# Altium schematic symbol library PERCRO_schematic.SchLib: 169 symbols (part 1 of 2)
Pins are listed as number, name and electrical type; pins without a type are passive.

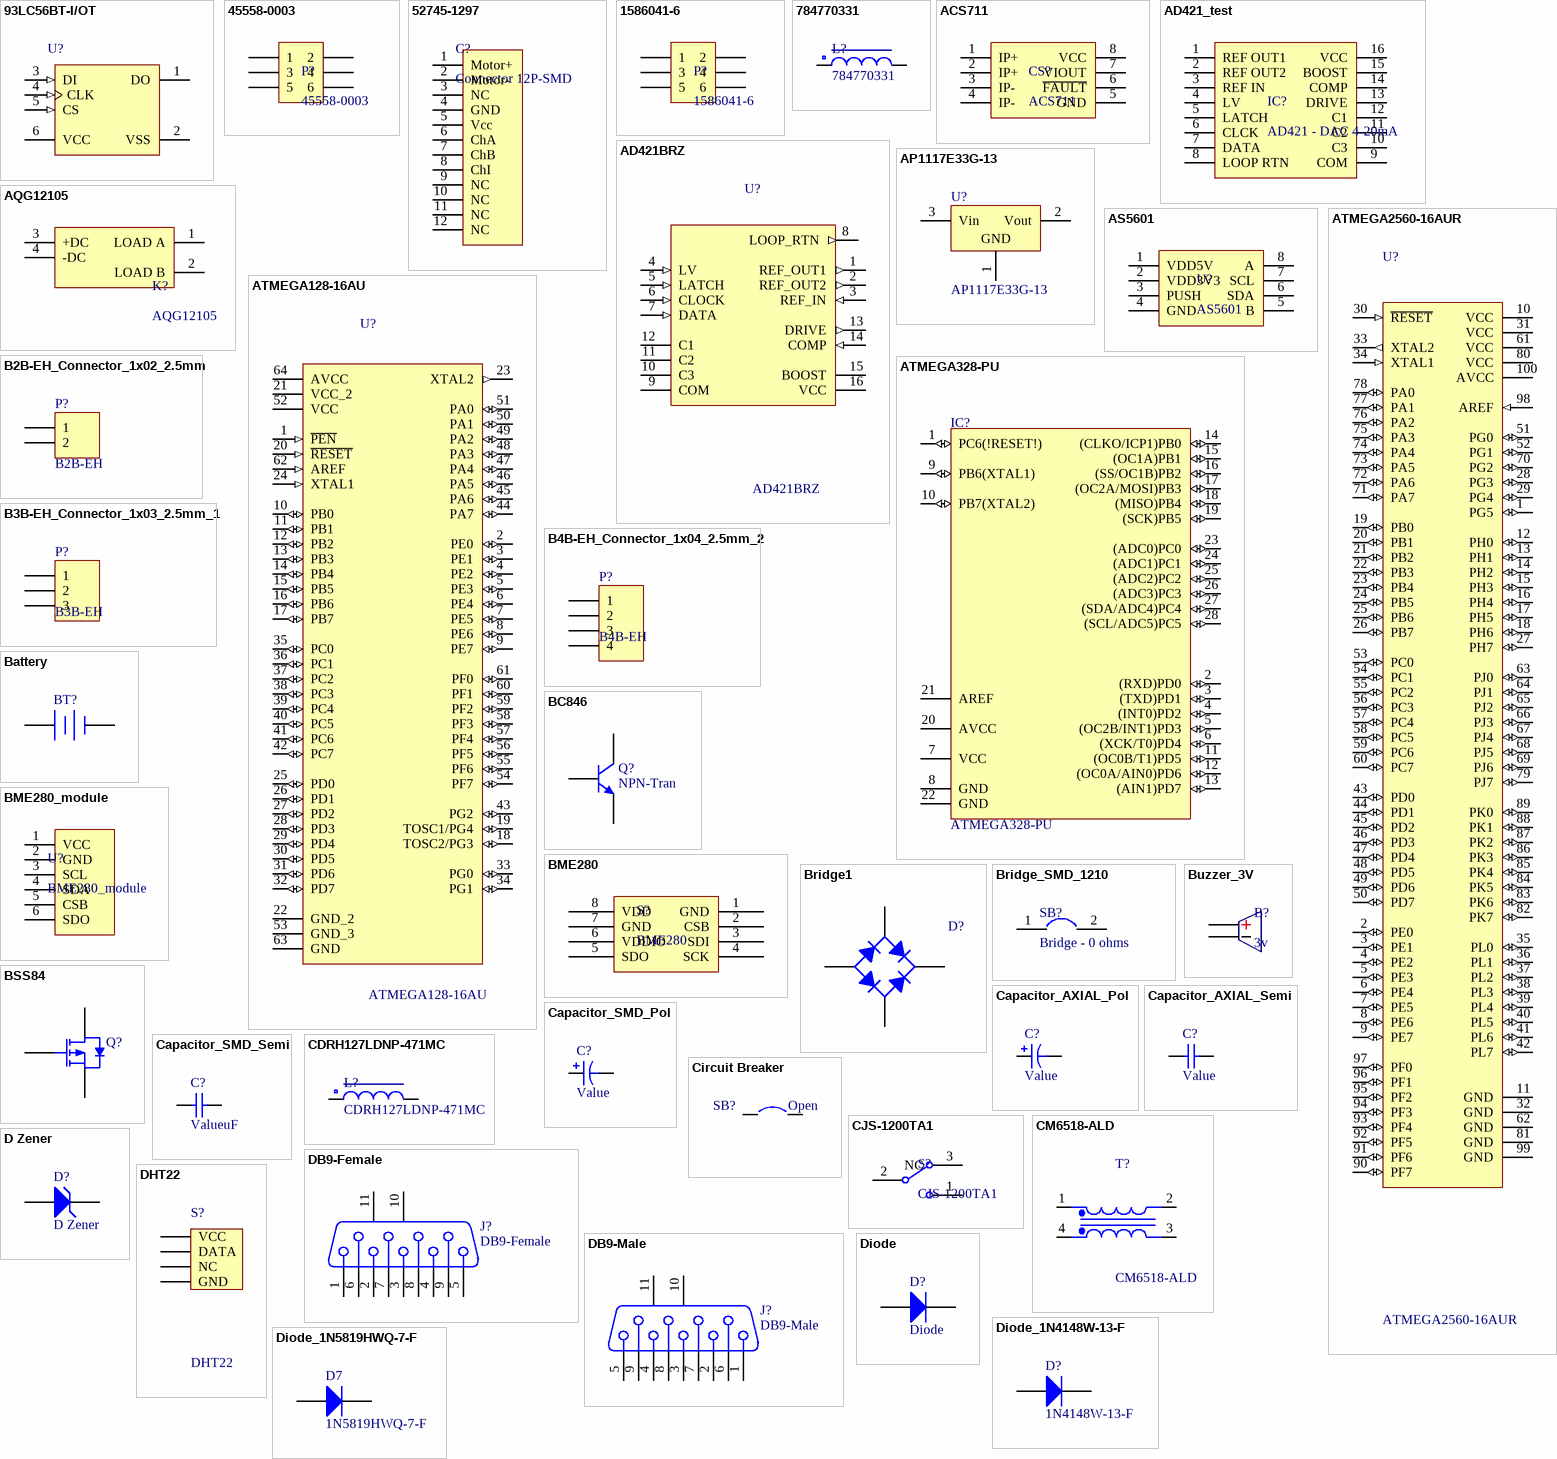
[diagram p0: symbols 93LC56BT-I/OT to Diode_1N5819HWQ-7-F]

## 93LC56BT-I/OT
designator U?
2K, 128x16-bit, 2.5V Microwire Serial EEPROM, 6-Pin SOT-23, Industrial Temperature, Tape and Reel; Manufacturer: Microchip; Manufacturer Code: 93LC56BT-E/OT; HelpURL: C:\Varios\PERCRO_DATASHEET\93LC56BT-EOT.pdf
footprint SOT-23-OT6_N (SOT23, 6-Leads, Body 2.9x1.6mm, Pitch 0.95mm, Lead Span 2.7mm, IPC Medium Density)
pins: 1 DO (hiz), 2 VSS (power), 3 DI (in), 4 CLK (in), 5 CS (in), 6 VCC (power)

## 45558-0003
designator P?
CONN RECEPT 6 POS W/POSTIVE LOCK; Manufacturer: Molex; Manufacturer Code: 45558-0003; HelpURL: C:\Varios\PERCRO_DATASHEET\45558-0003.pdf
footprint 45558-0003 (Footprint not found)
pins: 1, 2, 3, 4, 5, 6

## 52745-1297
designator C?, comment Connector 12P-SMD
Conectores FFC-12P; Manufacturer: Molex; Manufacturer Code: 52745-1297; HelpURL: C:\Varios\PERCRO_DATASHEET\CONNECTOR-52745-1297.pdf
footprint Nano_FFC_Connector (SMD Connector for DC motor ENX8)
pins: 1 Motor+, 2 Motor-, 3 NC, 4 GND, 5 Vcc , 6 ChA, 7 ChB, 8 ChI, 9 NC, 10 NC, 11 NC, 12 NC

## 1586041-6
designator P?
CONN RECEPT 6 POS W/POSTIVE LOCK; Manufacturer: TE Connectivity / AMP; Manufacturer Code: 1586041-6; HelpURL: C:\Varios\PERCRO_DATASHEET\1586041-6.pdf
footprint 1586041-6 (CONN HEADER R/A 6POS 4.2MM)
pins: 1, 2, 3, 4, 5, 6

## 784770331
designator L?
Inductor 330 uH 20 % 1 A; Manufacturer: Wurth Elektronik; Value: 330 uH; Manufacturer Code: 784770331; HelpURL: C:\Varios\PERCRO_DATASHEET\784770331.pdf
footprint 784770331 (Inductor Wurth Elektronik)
pins: 1, 2

## ACS711
designator CS?
Hall Effect Linear Current Sensor with Overcurrent; Manufacturer: Allegro; Manufacturer Code: ACS711ELCTR-25AB; HelpURL: C:\Varios\PERCRO_DATASHEET\ACS711.pdf
footprint SOIC-8
pins: 1 IP+, 2 IP+, 3 IP-, 4 IP-, 5 GND, 6 ~{FAULT}, 7 VIOUT, 8 VCC

## AD421_test
designator IC?, comment AD421 - DAC 4-20mA
DAC 4-20mA; Fabricante: Analog Devices; Voltaje: 3 - 5V; Codigo Fabricante: AD421; Valor: 4-20mA; HelpURL: C:\Varios\PERCRO_DATASHEET\AD421.pdf
footprint DIP-16
footprint SOP127P1030X265-16N (SOP, 16-Leads, Body 10.25x7.50mm, Pitch 1.27mm, IPC Medium Density)
pins: 1 REF OUT1, 2 REF OUT2, 3 REF IN, 4 LV, 5 LATCH, 6 CLCK, 7 DATA, 8 LOOP RTN, 9 COM, 10 C3, 11 C2, 12 C1, 13 DRIVE, 14 COMP, 15 BOOST, 16 VCC

## AD421BRZ
designator U?
D/A converter, 16bit, 125sps, Channels: 1; Manufacturer: Analog Devices; Manufacturer Code: AD421BRZ; Value: 16bit; HelpUrl: C:\Varios\PERCRO_DATASHEET\AD421.pdf
footprint SOIC127P1032X265-16N
pins: 1 REF_OUT1 (out), 2 REF_OUT2 (out), 3 REF_IN (in), 4 LV (in), 5 LATCH (in), 6 CLOCK (in), 7 DATA (in), 8 LOOP_RTN (out), 9 COM, 10 C3, 11 C2, 12 C1, 13 DRIVE (out), 14 COMP (in), 15 BOOST, 16 VCC (power)

## AP1117E33G-13
designator U?
Voltage Regulator 3V3 Adjustable; Manufacturer: DiodesZetex; Manufacturer Code: AP1117E33G-13; Value: 3V3; HelpURL: C:\Varios\PERCRO_DATASHEET\AP1117E33G-13.pdf
footprint SOT-223
pins: 1 GND (Adj), 2 Vout, 3 Vin
text: GND

## AQG12105
designator K?
State Solid Relay to 5V input and 75 VAC to 264 VAC 1A output; Manufacturer: Panasonic Industrial Devices; Value: 5V to 75 VAC to 264 VAC - 1A; Manufacturer Code: AQG12105; HelpURL: C:\Varios\PERCRO_DATASHEET\AQG12105.pdf
footprint RELAY_SS_AQ-G
pins: 1 LOAD A, 2 LOAD B, 3 +DC, 4 -DC

## AS5601
designator U?
Hall Effect Linear Current Sensor with Overcurrent; Manufacturer: AMU; Manufacturer Code: AS5601; HelpURL: C:\Varios\PERCRO_DATASHEET\AS5601.pdf
footprint SOIC-8
pins: 1 VDD5V, 2 VDD3V3, 3 PUSH, 4 GND, 5 B, 6 SDA, 7 SCL, 8 A

## ATMEGA128-16AU
designator U?
ATmega Series 16 MHz 128 KB Flash 4 KB SRAM 8-Bit Microcontroller - TQFP-64; MF: Microchip; Package: TQFP-64 Microchip; Availability: Unavailable; MP: ATMEGA128-16AU; Price: None; SnapEDA_Link: https://www.snapeda.com/parts/ATMEGA128-16AU/Microchip/view-part/?ref=snap; Value: *
footprint *QFP80P1600X1600X120-64N
pins: 1 ~{PEN} (in), 2 PE0 (io), 3 PE1 (io), 4 PE2 (io), 5 PE3 (io), 6 PE4 (io), 7 PE5 (io), 8 PE6 (io), 9 PE7 (io), 10 PB0 (io), 11 PB1 (io), 12 PB2 (io), 13 PB3 (io), 14 PB4 (io), 15 PB5 (io), 16 PB6 (io), 17 PB7 (io), 18 TOSC2/PG3 (io), 19 TOSC1/PG4 (io), 20 ~{RESET} (in), 21 VCC_2 (power), 22 GND_2, 23 XTAL2 (out), 24 XTAL1 (in), 25 PD0 (io), 26 PD1 (io), 27 PD2 (io), 28 PD3 (io), 29 PD4 (io), 30 PD5 (io), 31 PD6 (io), 32 PD7 (io), 33 PG0 (io), 34 PG1 (io), 35 PC0 (io), 36 PC1 (io), 37 PC2 (io), 38 PC3 (io), 39 PC4 (io), 40 PC5 (io), 41 PC6 (io), 42 PC7 (io), 43 PG2 (io), 44 PA7 (io), 45 PA6 (io), 46 PA5 (io), 47 PA4 (io), 48 PA3 (io), 49 PA2 (io), 50 PA1 (io), 51 PA0 (io), 52 VCC (power), 53 GND_3, 54 PF7 (io), 55 PF6 (io), 56 PF5 (io), 57 PF4 (io), 58 PF3 (io), 59 PF2 (io), 60 PF1 (io), 61 PF0 (io), 62 AREF (in), 63 GND, 64 AVCC (power)

## ATMEGA328-PU
designator IC?
ATmega Series 20 MHz 32 KB Flash 2 KB SRAM 8-Bit Microcontroller - DIP-28; MF: Microchip; Package: PDIP-28 Microchip; Availability: Unavailable; MP: ATMEGA328-PU; Price: None; SnapEDA_Link: https://www.snapeda.com/parts/ATMEGA328-PU/Microchip/view-part/?ref=snap; Value: *
footprint *DIL28 (Footprint not found)
pins: 1 PC6(!RESET!) (io), 2 (RXD)PD0 (io), 3 (TXD)PD1 (io), 4 (INT0)PD2 (io), 5 (OC2B/INT1)PD3 (io), 6 (XCK/T0)PD4 (io), 7 VCC (power), 8 GND (power), 9 PB6(XTAL1) (io), 10 PB7(XTAL2) (io), 11 (OC0B/T1)PD5 (io), 12 (OC0A/AIN0)PD6 (io), 13 (AIN1)PD7 (io), 14 (CLKO/ICP1)PB0 (io), 15 (OC1A)PB1 (io), 16 (SS/OC1B)PB2 (io), 17 (OC2A/MOSI)PB3 (io), 18 (MISO)PB4 (io), 19 (SCK)PB5 (io), 20 AVCC (power), 21 AREF, 22 GND (power), 23 (ADC0)PC0 (io), 24 (ADC1)PC1 (io), 25 (ADC2)PC2 (io), 26 (ADC3)PC3 (io), 27 (SDA/ADC4)PC4 (io), 28 (SCL/ADC5)PC5 (io)

## ATMEGA2560-16AUR
designator U?
AVR microcontroller; EEPROM: 4kB; SRAM: 8kB; Flash: 256kB; TQFP100; MF: Microchip; Package: TQFP-100 Microchip; Digi-Key_Part_Number: ATMEGA2560-16AURCT-ND; MP: ATMEGA2560-16AUR; SnapEDA_Link: https://www.snapeda.com/parts/ATMEGA2560-16AUR/Microchip/view-part/?ref=snap; Digi-Key_Purchase_URL: https://www.digikey.com/product-detail/en/microchip-technology/ATMEGA2560-16AUR/ATMEGA2560-16AURCT-ND/3789436?utm_source=snapeda&utm_medium=aggregator&utm_campaign=symbol; Value: *; HelpURL: C:\Varios\PERCRO_DATASHEET\ATMEL_2560\Atmel_2560.pdf
footprint *QFP50P1600X1600X120-100N (Footprint not found)
pins: 1 PG5 (io), 2 PE0 (io), 3 PE1 (io), 4 PE2 (io), 5 PE3 (io), 6 PE4 (io), 7 PE5 (io), 8 PE6 (io), 9 PE7 (io), 10 VCC (power), 11 GND (power), 12 PH0 (io), 13 PH1 (io), 14 PH2 (io), 15 PH3 (io), 16 PH4 (io), 17 PH5 (io), 18 PH6 (io), 19 PB0 (io), 20 PB1 (io), 21 PB2 (io), 22 PB3 (io), 23 PB4 (io), 24 PB5 (io), 25 PB6 (io), 26 PB7 (io), 27 PH7 (io), 28 PG3 (io), 29 PG4 (io), 30 ~{RESET} (in), 31 VCC (power), 32 GND (power), 33 XTAL2 (out), 34 XTAL1 (in), 35 PL0 (io), 36 PL1 (io), 37 PL2 (io), 38 PL3 (io), 39 PL4 (io), 40 PL5 (io), 41 PL6 (io), 42 PL7 (io), 43 PD0 (io), 44 PD1 (io), 45 PD2 (io), 46 PD3 (io), 47 PD4 (io), 48 PD5 (io), 49 PD6 (io), 50 PD7 (io), 51 PG0 (io), 52 PG1 (io), 53 PC0 (io), 54 PC1 (io), 55 PC2 (io), 56 PC3 (io), 57 PC4 (io), 58 PC5 (io), 59 PC6 (io), 60 PC7 (io), 61 VCC (power), 62 GND (power), 63 PJ0 (io), 64 PJ1 (io), 65 PJ2 (io), 66 PJ3 (io), 67 PJ4 (io), 68 PJ5 (io), 69 PJ6 (io), 70 PG2 (io), 71 PA7 (io), 72 PA6 (io), 73 PA5 (io), 74 PA4 (io), 75 PA3 (io), 76 PA2 (io), 77 PA1 (io), 78 PA0 (io), 79 PJ7 (io), 80 VCC (power), 81 GND (power), 82 PK7 (io), 83 PK6 (io), 84 PK5 (io), 85 PK4 (io), 86 PK3 (io), 87 PK2 (io), 88 PK1 (io), 89 PK0 (io), 90 PF7 (io), 91 PF6 (io), 92 PF5 (io), 93 PF4 (io), 94 PF3 (io), 95 PF2 (io), 96 PF1 (io), 97 PF0 (io), 98 AREF (in), 99 GND (power), 100 AVCC (power)

## B2B-EH_Connector_1x02_2.5mm
designator P?, comment B2B-EH
PCB_Connector_1x02_2.5mm; Manufacturer: JST; Manufacturer Code: B2B-EH; HelpURL: C:\Varios\PERCRO_DATASHEET\B2B-EH.PDF
signal-integrity model Connector
footprint CONN_B2B-EH (PCB connector 1X02_2.5mm)
pins: 1, 2

## B3B-EH_Connector_1x03_2.5mm_1
designator P?, comment B3B-EH
PCB_Connector_1x03_2.5mm; Manufacturer: JST; Manufacturer Code: B3B-EH; HelpURL: C:\Varios\PERCRO_DATASHEET\B2B-EH.PDF
signal-integrity model Connector
footprint CONN_B3B-EH (PCB connector 1X03_2.5mm)
pins: 1, 2, 3

## B4B-EH_Connector_1x04_2.5mm_2
designator P?, comment B4B-EH
PCB_Connector_1x04_2.5mm; Manufacturer: JST; Manufacturer Code: B4B-EH; HelpURL: C:\Varios\PERCRO_DATASHEET\B2B-EH.PDF
signal-integrity model Connector
footprint CONN_B4B-EH (PCB connector 1X04_2.5mm)
pins: 1, 2, 3, 4

## Battery
designator BT?
Multicell Battery; Published: 24-Mar-1999; LatestRevisionDate: 17-Jul-2002; LatestRevisionNote: Re-released for DXP Platform.; PackageReference: BAT-2; Publisher: Altium Limited; PackageDescription: Battery; 2 Leads
footprint BAT-2 (Battery; 2 Leads)
pins: 1 +, 2 -

## BC846
designator Q?, comment NPN-Tran
NPN General Purpose Amplifier; Manufacturer: *; Manufacturer Code: *; Value: *
footprint SOT-23
pins: 1 E, 2 B, 3 C

## BME280
designator S?
Humidity, temperature and pressure sensor; Manufacturer: BOSH; Value: 3.3V; Manufacturer Code: BME280; HelpURL: C:\Varios\PERCRO_DATASHEET\bme280.pdf
footprint BME280
pins: 1 GND, 2 CSB, 3 SDI, 4 SCK, 5 SDO, 6 VDDIO, 7 GND, 8 VDD

## BME280_module
designator U?
Sensor: humidity, temperature, pressure; Manufacturer Code: BME280; Manufacturer: Bosch Sensortec; Value: 3.3V; HelpURL: C:\Varios\PERCRO_DATASHEET\bme280.pdf
footprint BME280_module (Module sensor temp, humidity, presion)
pins: 1 VCC, 2 GND, 3 SCL, 4 SDA, 5 CSB, 6 SDO

## Bridge1
designator D?
Full Wave Diode Bridge; Published: 8-Jun-2000; LatestRevisionDate: 29-May-2009; LatestRevisionNote: Sch pins A & K swapped.; DatasheetVersion: E2732B; PackageReference: D-38; Publisher: Altium Limited; PackageDescription: Bridge Rectifier; 4 Terminals; Body 9.4 x 9.4 mm (typ); Pitch 5.08 mm
footprint D-38 (Bridge Rectifier; 4 Terminals; Body 9.4 x 9.4 mm (typ); Pitch 5.08 mm)
simulation model BRIDGE (Spice Subcircuit)
pins: 1 K, 2 C, 3 A, 4 C

## Bridge_SMD_1210
designator SB?, comment Bridge - 0 ohms
Bridge_SMD 1210; Manufacturer Code: CRCW12100000Z0EA; Manufacturer: Vishay; Value: 0 ohms; HelpURL: C:\varios\Datasheet PCBs\CRCW12100000Z0EA.pdf
footprint Bridge_smd_1210
pins: 1, 2

## BSS84
designator Q?
P-channel Enhancement Mode Vertical D-MOSFET; Published: 17-Sep-2003; LatestRevisionDate: 12-Dec-2006; LatestRevisionNote: IPC-7351 Footprint Added.; DatasheetVersion: 18-Jun-1997; PackageVersion: May-1999; PackageReference: SOT23; Publisher: Altium Limited; PackageDescription: 3-Pin SOT-23 Package 0.95 mm Pitch, 2.3 mm Lead Span; ComponentLink1Description: Manufacturer Link; ComponentLink1URL: http://www.semiconductors.philips.com/; ComponentLink2Description: Datasheet; ComponentLink2URL: http://www.semiconductors.philips.com/acrobat/datasheets/BSS84_3.pdf
footprint SOT23_N (SOT23, 3-Leads, Body 2.9x1.3mm, Pitch 0.95mm, Lead Span 2.3mm, IPC Medium Density)
footprint SOT23_L (SOT23, 3-Leads, Body 2.9x1.3mm, Pitch 0.95mm, Lead Span 2.3mm, IPC High Density)
footprint SOT23_M (SOT23, 3-Leads, Body 2.9x1.3mm, Pitch 0.95mm, Lead Span 2.3mm, IPC Low Density)
simulation model BSS84 (SUBCKT)
pins: 1 G, 2 S, 3 D

## Buzzer_3V
designator B?, comment 3v
Buzzer_3V; Manufacturer: Kingstate; Manufacturer Code: KXG1201; Value: 3v
footprint BUZZER
pins: 1, 2

## Capacitor_AXIAL_Pol
designator C?, comment Value
Capacitor_AXIAL_Pol; Manufacturer: *; Manufacturer Code: *
footprint C_AXIAL_POL_5mm (5mm (196.85mil))
simulation model CAP (Capacitor)
signal-integrity model Cap Pol
footprint C_AXIAL_POL_7.62mm (7.62mm (300mil))
pins: 1, 2
1 alternate drawing of the same symbol

## Capacitor_AXIAL_Semi
designator C?, comment Value
Capacitor_AXIAL_emi; Manufacturer: *; Manufacturer Code: *
footprint C_AXIAL_POL_5mm (5mm (196.85mil))
footprint C_AXIAL_4mm (5mm (196.85mil))
pins: 1, 2

## Capacitor_SMD_Pol
designator C?, comment Value
Polarized_Capacitor; Manufacturer: *; Manufacturer Code: *
footprint C2312-11
footprint C2917-12
footprint SERIE_UD
footprint SERIE_FK
footprint SERIE_FT
footprint SERIE_E
footprint C1206-07
footprint CAP_UWZ (SMD Capacitor 10mmx10mm (DxH))
footprint CAP_UWT (SMD Capacitor 6.3mmx7.7mm (DxH))
footprint SERIE_F (Capacitor)
pins: 1, 2
1 alternate drawing of the same symbol

## Capacitor_SMD_Semi
designator C?, comment ValueuF
Capacitor_SMD_Semi; Manufacturer: *; Manufacturer Code: *
footprint C0603
footprint C0805
footprint C1210 (Chip Capacitor, Body 3.2x2.5mm, IPC High Density)
footprint C1206 (Chip Capacitor, Body 3.2x1.6mm, IPC High Density)
footprint C1808
footprint C0201
pins: 1, 2

## CDRH127LDNP-471MC
designator L?
Inductor 470 uH 20 % 1 A; Manufacturer: Sumida; Value: 470 uH; Manufacturer Code: CDRH127LDNP-471MC; HelpURL: C:\Varios\PERCRO_DATASHEET\CDRH127LDNP-471MC.pdf
footprint CDRH127LDNP-471MC (Inductor Sumida)
pins: 1, 2

## Circuit Breaker
designator SB?, comment Open
Circuit Breaker; Published: 24-Mar-1999; Revision: July-2002: Re-released for DXP Platform.; Publisher: Altium Limited
footprint SHORT_SMD_1x2_2 (Header SMD, 2-Pin, 2mm Pitch)
pins: 1, 2

## CJS-1200TA1
designator S?
Slide Switches SMD; Manufacturer: Nidec Copal; Value: 6 V - 100 mA; Manufactorer Code: CJS-1200TA1; HelpURL: C:\Varios\PERCRO_DATASHEET\CJS-1200TA1.PDF
footprint CJS-1200TA1 (Slide switches)
pins: 1 NO, 2 NC, 3 NC

## CM6518-ALD
designator T?
Common mode chokes 1.40mH - 2.5A; Manufacturer: Coilcraft; Manufacturer Code: CM6518-ALD; Value: 1.40 mH - 2.5 A; HelpURL: C:\Varios\PERCRO_DATASHEET\CM6518-ALD.pdf
footprint CM6518-ALD (Common mode chokes (coil))
pins: 1 Pri+, 2 Pri-, 3 Sec-, 4 Sec+

## D Zener
designator D?
Zener Diode; Published: 8-Jun-2000; LatestRevisionDate: 17-Jul-2002; LatestRevisionNote: Re-released for DXP Platform.; PackageReference: DIODE-0.7; Publisher: Altium Limited; PackageDescription: Diode, Thru-Hole; 2 Leads; 0.7 in Pin Spacing
footprint DIODE-0.7 (Footprint not found)
simulation model ZENER (Diode)
signal-integrity model D Zener
pins: 1 A, 2 K

## DB9-Female
designator J?
Receptacle Assembly, 9 Position, Right Angle; PackageDocument: O; Positions: 9; Published: 15-Jun-2001; LatestRevisionDate: 17-Jul-2002; LatestRevisionNote: Re-released for DXP Platform.; DatasheetDocument: 1-Sep-1999; PackageReference: 788750; Publisher: Altium Limited; Orientation: Right Angle; Gender: Receptacle
signal-integrity model Connector
footprint DB9-Female (Connector; D Subminiature; 9 Position; Right Angle; Pitch 1.385 mm)
pins: 1, 2, 3, 4, 5, 6, 7, 8, 9, 10 MH1, 11 MH2

## DB9-Male
designator J?
Receptacle Assembly, 9 Position, Right Angle; PackageDocument: O; Positions: 9; Published: 15-Jun-2001; LatestRevisionDate: 17-Jul-2002; LatestRevisionNote: Re-released for DXP Platform.; DatasheetDocument: 1-Sep-1999; PackageReference: 788750; Publisher: Altium Limited; Orientation: Right Angle; Gender: Receptacle
signal-integrity model Connector
footprint DB9-Male (Connector; D Subminiature; 9 Position; Right Angle; Pitch 1.385 mm)
pins: 1, 2, 3, 4, 5, 6, 7, 8, 9, 10 MH1, 11 MH2

## DHT22
designator S?
Sensor de humedad y temperatura; Manufacturer: Aosong Electronics; Manufacturer Code: DHT22; Height: 25.3 mm; HelpURL: C:\Varios\PERCRO_DATASHEET\DHT22.pdf
footprint DHT22 (Sensor humedad y temperatura)
pins: 1 VCC, 2 DATA, 3 NC, 4 GND

## Diode
designator D?
Default Diode; Published: 8-Jun-2000; LatestRevisionDate: 17-Jul-2002; LatestRevisionNote: Re-released for DXP Platform.; PackageVersion: Sep-1996; PackageReference: SMC; Publisher: Altium Limited; PackageDescription: DO-214-AB/SMC; 2 C-Bend Leads; Body 7.9 x 5.9 mm, inc. leads (LxW); Code_JEDEC: DO-214-AB
footprint SMC (Footprint not found)
simulation model DIODE (Diode)
signal-integrity model Diode
pins: 1 A, 2 K

## Diode_1N4148W-13-F
designator D?, comment 1N4148W-13-F
FAST SWITCHING DIODE; Manufacturer: DiodesZetex; Manufacturer Code: 1N4148W-13-F; HelpURL: *
footprint SOD-123
pins: 1 K, 2 A

## Diode_1N5819HWQ-7-F
designator D7, comment 1N5819HWQ-7-F
FAST SWITCHING DIODE Schottky; Manufacturer: Diodes Incorporated; Value: 1A - 40V; Manufacturer Code: 1N5819HWQ-7-F; HelpURL: C:\Varios\PERCRO_DATASHEET\1N5819HWQ-7-F.pdf
footprint SOD-123
pins: 1 K, 2 A

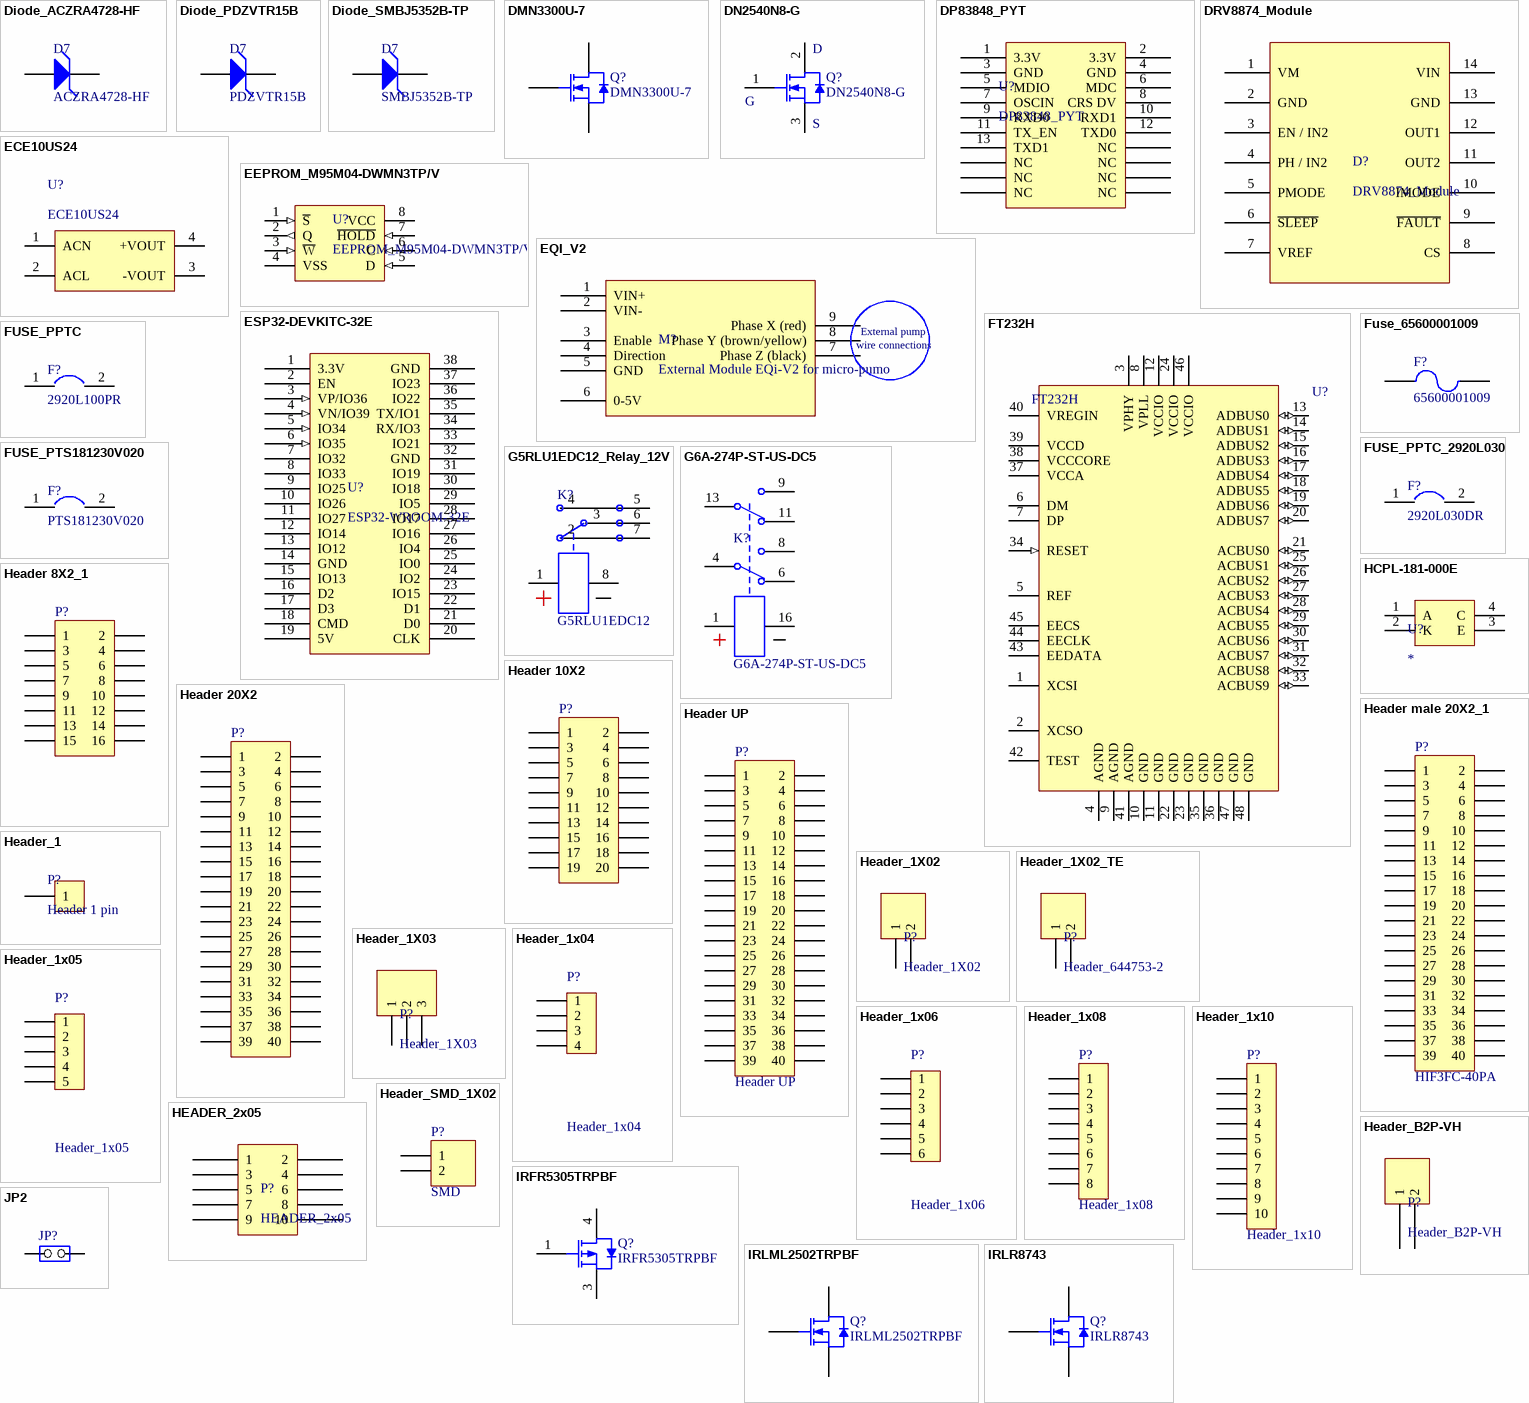
[diagram p1: symbols Diode_ACZRA4728-HF to JP2]

## Diode_ACZRA4728-HF
designator D7, comment ACZRA4728-HF
Diode Zener 3.3V - 1W; Manufacturer: Comchip Technology; Manufacturer Code: ACZRA4728-HF; HelpURL: C:\Varios\PERCRO_DATASHEET\ACZRA4728-HF.pdf; Value: 3.3V-1W
footprint DO-214AC
pins: 1 K, 2 A

## Diode_PDZVTR15B
designator D7, comment PDZVTR15B
Diode Zener 15V - 1W; Manufacturer: Diodes Incorporated; Value: 15V-1W; Manufacturer Code: PDZVTR15B; HelpURL: C:\Varios\PERCRO_DATASHEET\PDZVTR15B.pdf
footprint SOD-128
pins: 1 K, 2 A

## Diode_SMBJ5352B-TP
designator D7, comment SMBJ5352B-TP
Diode Zener 15V - 5W; Manufacturer: Micro Commercial Components (MCC); Value: 15V-5W; UL: YES; Manufacturer Code: SMBJ5352B-TP; HelpURL: C:\Varios\PERCRO_DATASHEET\SMBJ5352B-TP.pdf
footprint DO-214AA
pins: 1 K, 2 A

## DMN3300U-7
designator Q?
N-Channel MOSFET 30V - 2A; Manufacturer: Vishay Semiconductors; Value: 30V - 2A; HelpURL: C:\Varios\PERCRO_DATASHEET\DMN3300U-7.pdf; Manufacturer Code: DMN3300U-7
footprint SOT-23
pins: 1 G, 2 S, 3 D

## DN2540N8-G
designator Q?
N-Channel Depletion-Mode Vertical DMOS FETs; Manufacturer: Microchip Technology; HelpURL: C:\Varios\PERCRO_DATASHEET\DN2540.pdf; Manufacturer Code: DN2540N8-G
footprint SOT-89
pins: 1 G, 2 D, 3 S

## DP83848_PYT
designator U?
Ethernet Physical Transceiver; Manufacturer: National Semiconductor; HelpURL: C:\Varios\PERCRO_DATASHEET\DP83848.pdf; Manufacturer Code: DP83848
footprint DP83848_PYT
pins: 1 3.3V, 2 3.3V, 3 GND, 4 GND, 5 MDIO, 6 MDC, 7 OSCIN, 8 CRS DV, 9 RXD0, 10 RXD1, 11 TX_EN, 12 TXD0, 13 TXD1, 14 NC, 15 NC, 16 NC, 17 NC, 18 NC, 19 NC, 20 NC

## DRV8874_Module
designator D?
Driver DRV8874, 4.5 V to 37 V, output 6 A; Manufacturer: Texas Instruments; pololu item: #4035; max current: 6 A; logic voltage: 1.8 V to 5 V; Manufacturer Code: DRV8874; Motor voltage: 4.5 V to 37 V; HelpURL: C:\Varios\PERCRO_DATASHEET\DRV8874.pdf; connection: https://www.pololu.com/product/4035
footprint DRV8874_Module
pins: 1 VM, 2 GND, 3 EN / IN2, 4 PH / IN2, 5 PMODE, 6 ~{SLEEP}, 7 VREF, 8 CS, 9 ~{FAULT}, 10 IMODE, 11 OUT2, 12 OUT1, 13 GND, 14 VIN

## ECE10US24
designator U?
CA to CD 10W 24V 0.41A; Manufacturer Code: XP Power; HelpURL: C:\Varios\PERCRO_DATASHEET\ECE10US24.pdf; Manufacturer: ECE10US24; Value: 24V
footprint ECE10US24 (AC to DC converter)
pins: 1 ACN, 2 ACL, 3 -VOUT, 4 +VOUT

## EEPROM_M95M04-DWMN3TP/V
designator U?
EEPROM 4MB; Manufacturer: STMicroelectronics; Value: 3.3V; HelpURL: C:\Varios\PERCRO_DATASHEET\M95M04-DWMN3TP.pdf; Manufacturer Code: M95M04-DWMN3TP/V
footprint SOIC-8
pins: 1 ~{S} (in), 2 Q (out), 3 ~{W} (in), 4 VSS (power), 5 D (in), 6 C (in), 7 ~{HOLD} (in), 8 VCC (power)

## EQI_V2
designator M?, comment External Module EQi-V2 for micro-pumo  (mechanical)
Manufacturer: RS Components; Manufacturer Code: 125-3568; Value: Volt: 12 to 30V; HelpURL: C:\Varios\PERCRO_DATASHEET\EQi-V2-MG1-REV-3.pdf
footprint EQi_v2
pins: 1 VIN+, 2 VIN-, 3 Enable, 4 Direction, 5 GND, 6 0-5V, 7 Phase Z (black), 8 Phase Y (brown/yellow), 9 Phase X (red)
text: External pump; wire connections

## ESP32-DEVKITC-32E
designator U?, comment ESP32-WROOM-32E
ESP32-WROOM-32E_4MB; Manufacturer: Espressif Systems; Manufacturer Code: ESP32-DevKitC-32E; HelpURL: C:\Varios\PERCRO_DATASHEET\esp32-wroom-32_datasheet_en.pdf; Value: ESP32-WROOM-32E_4MB
footprint ESP32-WROOM-32E
pins: 1 3.3V, 2 EN, 3 VP/IO36 (in), 4 VN/IO39 (in), 5 IO34 (in), 6 IO35 (in), 7 IO32, 8 IO33, 9 IO25, 10 IO26, 11 IO27, 12 IO14, 13 IO12, 14 GND, 15 IO13, 16 D2, 17 D3, 18 CMD, 19 5V, 20 CLK, 21 D0, 22 D1, 23 IO15, 24 IO2, 25 IO0, 26 IO4, 27 IO16, 28 IO17, 29 IO5, 30 IO18, 31 IO19, 32 GND, 33 IO21, 34 RX/IO3, 35 TX/IO1, 36 IO22, 37 IO23, 38 GND

## FT232H
designator U?
SINGLE CHANNEL HI-SPEED USB UART/FIFO Chip, LQFP-48; Manufacturer: *; Manufacturer Code: *; HelpURL: C:\Varios\PERCRO_DATASHEET\DS_FT232H.pdf
footprint LQFP-48_N (Thin QFP, 48-Leads, Body 7x7mm, Pitch 0.5mm, IPC Low Density)
pins: 1 XCSI (power), 2 XCSO (power), 3 VPHY (power), 4 AGND (power), 5 REF (power), 6 DM (power), 7 DP (power), 8 VPLL (power), 9 AGND (power), 10 GND (power), 11 GND (power), 12 VCCIO (power), 13 ADBUS0 (io), 14 ADBUS1 (io), 15 ADBUS2 (io), 16 ADBUS3 (io), 17 ADBUS4 (io), 18 ADBUS5 (io), 19 ADBUS6 (io), 20 ADBUS7 (io), 21 ACBUS0 (io), 22 GND (power), 23 GND (power), 24 VCCIO (power), 25 ACBUS1 (io), 26 ACBUS2 (io), 27 ACBUS3 (io), 28 ACBUS4 (io), 29 ACBUS5 (io), 30 ACBUS6 (io), 31 ACBUS7 (io), 32 ACBUS8 (io), 33 ACBUS9 (io), 34 RESET (in), 35 GND (power), 36 GND (power), 37 VCCA (power), 38 VCCCORE (power), 39 VCCD (power), 40 VREGIN (power), 41 AGND (power), 42 TEST (power), 43 EEDATA (power), 44 EECLK (power), 45 EECS (power), 46 VCCIO (power), 47 GND (power), 48 GND (power)

## Fuse_65600001009
designator F?, comment 65600001009
Fuse Holder 10A; Manufacturer: Littelfuse; Manufacturer Code: 65600001009; HelpURL: C:\Varios\PERCRO_DATASHEET\Fuse_Block_656.pdf; Value: Fuse Holder
footprint FUSE_656 (FUSE_HOLDER)
pins: 1, 2

## FUSE_PPTC
designator F?, comment 2920L100PR
Surface mount overcurrent  protection 1.1 A; Manufacturer: Littelfuse; Value: 1.1 A; Manufacturer Code: 2920L100PR; HelpURL: C:\varios\Datasheet PCBs\PPP00076.pdf
footprint 2920_1
pins: 1, 2

## FUSE_PPTC_2920L030
designator F?, comment 2920L030DR
Surface mount overcurrent  protection 0.3 A; Manufacturer: Littelfuse; Value: 0.3 A; Manufacturer Code: 2920L030DR; HelpURL: C:\varios\Datasheet PCBs\PPP00076.pdf
footprint 2920_1
pins: 1, 2

## FUSE_PTS181230V020
designator F?, comment PTS181230V020
Surface mount overcurrent  protection 200 mA; Manufacturer: Bussmann / Eaton; Value: 200 mA; Manufacturer Code: PTS181230V020; HelpURL: C:\Varios\PERCRO_DATASHEET\PTS181230V020.pdf
footprint PTS1812
pins: 1, 2

## G5RLU1EDC12_Relay_12V
designator K?, comment G5RLU1EDC12
Relay OMRON 12V; Manufacturer: OMRON; Manufacturer Code: G5RLU1EDC12; HelpURL: C:\Varios\PERCRO_DATASHEET\G5RLU1EDC5.pdf
footprint RELAY_G5RLU1EDC12 (Relay_OMRON)
pins: 1, 2, 3, 4, 5, 6, 7, 8

## G6A-274P-ST-US-DC5
designator K?
Relay OMRON 5V DC, 40mA, 125Ohms; Manufacturer: OMRON; Manufacturer Code: G6A-274P-ST-US-DC5; HelpURL: C:\Varios\PERCRO_DATASHEET\G6A-274P-ST-US-DC5.pdf
footprint G6A-274P (Relay OMRON)
pins: 1, 4, 6, 8, 9, 11, 13, 16

## HCPL-181-000E
designator U?
Opto-isolator 50mA max; Manufacturer: AVAGO TECHNOLOGIES; Manufacturer Code: HCPL-181-000E; HelpURL: C:\Varios\PERCRO_DATASHEET\HCPL-181-000E.pdf
footprint SO-4 (Opto-isolator)
pins: 1 A, 2 K, 3 E, 4 C

## Header 8X2_1
designator P?
Header, 10-Pin, Dual row; LatestRevisionDate: 17-Jul-2002; LatestRevisionNote: Re-released for DXP Platform.; Publisher: Altium Limited
signal-integrity model Connector
footprint HDR2X8_2.54 (Connector; Header; 10x2 Position)
pins: 1, 2, 3, 4, 5, 6, 7, 8, 9, 10, 11, 12, 13, 14, 15, 16

## Header 10X2
designator P?
Header, 10-Pin, Dual row; LatestRevisionDate: 17-Jul-2002; LatestRevisionNote: Re-released for DXP Platform.; Publisher: Altium Limited
signal-integrity model Connector
footprint HDR2X10_2.54 (Connector; Header; 10x2 Position)
pins: 1, 2, 3, 4, 5, 6, 7, 8, 9, 10, 11, 12, 13, 14, 15, 16, 17, 18, 19, 20

## Header 20X2
designator P?
Header, 20-Pin, Dual row; LatestRevisionDate: 17-Jul-2002; LatestRevisionNote: Re-released for DXP Platform.; Publisher: Altium Limited
footprint HDR2X20 (Connector; Header; 20x2 Position)
signal-integrity model Connector
pins: 1, 2, 3, 4, 5, 6, 7, 8, 9, 10, 11, 12, 13, 14, 15, 16, 17, 18, 19, 20, 21, 22, 23, 24, 25, 26, 27, 28, 29, 30, 31, 32, 33, 34, 35, 36, 37, 38, 39, 40

## Header male 20X2_1
designator P?, comment HIF3FC-40PA
Header, 20-Pin, Dual row; LatestRevisionDate: 17-Jul-2002; LatestRevisionNote: Re-released for DXP Platform.; Publisher: Altium Limited
footprint HDR2x20_MALE (Connector; Header; 20x2 Position)
signal-integrity model Connector
pins: 1, 2, 3, 4, 5, 6, 7, 8, 9, 10, 11, 12, 13, 14, 15, 16, 17, 18, 19, 20, 21, 22, 23, 24, 25, 26, 27, 28, 29, 30, 31, 32, 33, 34, 35, 36, 37, 38, 39, 40

## Header UP
designator P?
Header, 20-Pin, Dual row; LatestRevisionDate: 17-Jul-2002; LatestRevisionNote: Re-released for DXP Platform.; Publisher: Altium Limited
footprint HDR20x2 (Connector; Header; 20x2 Position)
signal-integrity model Connector
pins: 1, 2, 3, 4, 5, 6, 7, 8, 9, 10, 11, 12, 13, 14, 15, 16, 17, 18, 19, 20, 21, 22, 23, 24, 25, 26, 27, 28, 29, 30, 31, 32, 33, 34, 35, 36, 37, 38, 39, 40

## Header_1
designator P?, comment Header 1 pin
footprint HDR1_PIN (Header, 1-Pin)
footprint Screw_ground
pins: 1

## Header_1X02
designator P?
footprint HDR1x2_2.54 (Header, 2-Pin, 2.54mm Pitch)
pins: 1, 2

## Header_1X02_TE
designator P?, comment Header_644753-2
Header_1X02_TE; Manufacturer: TE Connectivity; Manufacturer Code: 644753-2
footprint 644753-2 (Header)
pins: 1, 2

## Header_1X03
designator P?
footprint HDR1x3_2.54 (Header, 3-Pin, 2.54mm Pitch)
pins: 1, 2, 3

## Header_1x04
designator P?
Header, 4-Pin
footprint HDR1X4 (Connector; Header; 4 Position)
pins: 1, 2, 3, 4

## Header_1x05
designator P?
Header, 5-Pin
footprint HDR1X5 (Connector; Header; 5 Position)
pins: 1, 2, 3, 4, 5

## Header_1x06
designator P?
Header, 6-Pin
footprint HDR1X6 (Connector; Header; 8 Position)
pins: 1, 2, 3, 4, 5, 6

## Header_1x08
designator P?
Header, 8-Pin
footprint HDR1X8 (Connector; Header; 8 Position)
pins: 1, 2, 3, 4, 5, 6, 7, 8

## Header_1x10
designator P?
Header, 10-Pin
footprint HDR1X10 (Connector; Header; 10 Position)
pins: 1, 2, 3, 4, 5, 6, 7, 8, 9, 10

## HEADER_2x05
designator P?
footprint HDR2X5_2.54
pins: 1, 2, 3, 4, 5, 6, 7, 8, 9, 10

## Header_B2P-VH
designator P?
Header_1X02; Manufacturer: JST; Manufacturer Code: B2P-VH(LF)(SN)
footprint B2P-VH (Header 1x2 degrees)
pins: 1, 2

## Header_SMD_1X02
designator P?, comment SMD
Header, 2-Pin
signal-integrity model Connector
footprint HDR_SMD_1x2_2 (Header SMD, 2-Pin, 2mm Pitch)
pins: 1, 2

## IRFR5305TRPBF
designator Q?
P-channel MOSFET; Manufacturer: Infineon; Manufacturer Code: IRFR5305TRPBF; HelpURL: C:\Varios\PERCRO_DATASHEET\IRFR5305TRPBF.PDF
footprint DPAK
pins: 1 G, 3 S, 4 D

## IRLML2502TRPBF
designator Q?
N-Channel MOSFETs HEXFET power; Manufacturer: Infineon Technologies; HelpURL: C:\Varios\PERCRO_DATASHEET\IRLML2502TRPBF.pdf; Manufacturer Code: IRLML2502TRPBF
footprint SOT-23
pins: 1 G, 2 S, 3 D

## IRLR8743
designator Q?
N-channel Enhancement Mode Vertical D-MOSFET; Manufacturer: IOR Rectifier; HelpURL: C:\AltiumDoc\Datasheets\IRLR8743.pdf; Manufacturer Code: IRLR8743
footprint TO-252
pins: 1 G, 2 S, 3 D

## JP2
designator JP?
footprint HDR1x2_2.54 (Header, 2-Pin, 2.54mm Pitch)
footprint HDR_1x2_2R54_V_M_S (Male Header, Pitch 2.54mm, 4x1 Position, Mated Height 6mm, Tail Length 3mm)
pins: 1 COMMON, 2 NO

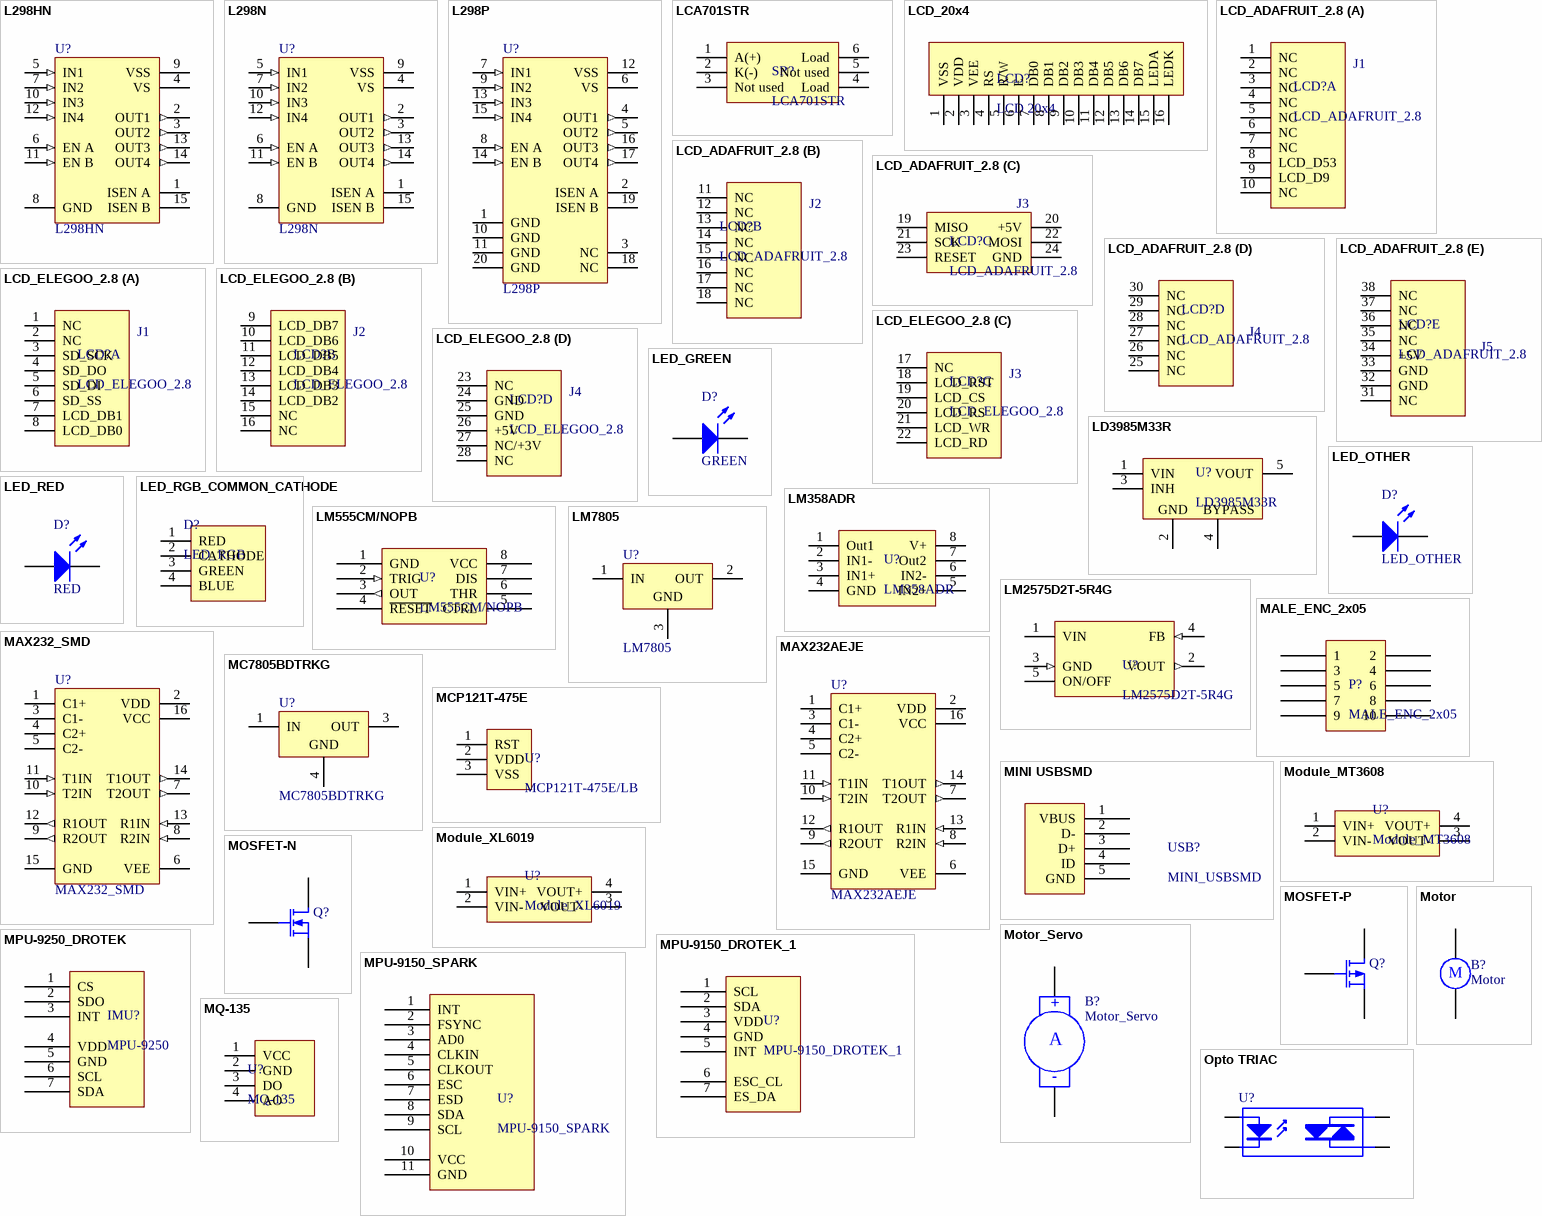
[diagram p2: symbols L298HN to Opto TRIAC]

## L298HN
designator U?
Dual Full Bridge Driver; Note: TAB connected to pin 8; Published: 8-Jun-2000; LatestRevisionDate: 17-Jul-2002; LatestRevisionNote: Re-released for DXP Platform.; DatasheetVersion: Jul-1999; PackageVersion: Apr-1998; PackageReference: Multiwatt15H; Publisher: Altium Limited; PackageDescription: TO, Thru-Hole, Horizontal, Heatsink Mounted; 15 Bent Staggered Leads; Pitch 1.27 mm; ComponentLink1Description: Manufacturer Link; ComponentLink1URL: http://www.st.com/; ComponentLink2Description: Datasheet; ComponentLink2URL: http://www.st.com/stonline/products/literature/ds/1773/l298.pdf
footprint Multiwatt15H (TO, Thru-Hole, Horizontal, Heatsink Mounted; 15 Bent Staggered Leads; Pitch 1.27 mm)
pins: 1 ISEN A, 2 OUT1 (out), 3 OUT2 (out), 4 VS (power), 5 IN1 (in), 6 EN A (in), 7 IN2 (in), 8 GND (power), 9 VSS (power), 10 IN3 (in), 11 EN B (in), 12 IN4 (in), 13 OUT3 (out), 14 OUT4 (out), 15 ISEN B

## L298N
designator U?
Dual Full Bridge Driver; Published: 8-Jun-2000; LatestRevisionDate: 14-May-2007; LatestRevisionNote: Mapped to vertical PCB.; DatasheetVersion: Jul-1999; PackageReference: Multiwatt15V; Publisher: Altium Limited; PackageDescription: TO, Thru-Hole, Vertical, Heatsink Mounted; 15 Bent Staggered Leads; Pitch 1.27 mm; ComponentLink1Description: Manufacturer Link; ComponentLink1URL: http://www.st.com/; ComponentLink2Description: Datasheet; ComponentLink2URL: http://www.st.com/stonline/products/literature/ds/1773/l298.pdf
footprint Multiwatt15V (TO, Thru-Hole, Vertical, Heatsink Mounted; 15 Bent Staggered Leads; Pitch 1.27 mm)
pins: 1 ISEN A, 2 OUT1 (out), 3 OUT2 (out), 4 VS (power), 5 IN1 (in), 6 EN A (in), 7 IN2 (in), 8 GND (power), 9 VSS (power), 10 IN3 (in), 11 EN B (in), 12 IN4 (in), 13 OUT3 (out), 14 OUT4 (out), 15 ISEN B

## L298P
designator U?
Dual Full Bridge Driver
footprint PowerSO20_M (SOP, 20-Leads, Body 15.9x11mm, Pitch 1.27mm, IPC Low Density)
pins: 1 GND (power), 2 ISEN A, 3 NC, 4 OUT1 (out), 5 OUT2 (out), 6 VS (power), 7 IN1 (in), 8 EN A (in), 9 IN2 (in), 10 GND (power), 11 GND (power), 12 VSS (power), 13 IN3 (in), 14 EN B (in), 15 IN4 (in), 16 OUT3 (out), 17 OUT4 (out), 18 NC, 19 ISEN B, 20 GND (power)

## LCA701STR
designator SR?
Solid_State_Relay; Manufacturer: IXYS; HelpURL: C:\Varios\PERCRO_DATASHEET\LCA701.pdf; Manufacturer Code: LCA701STR; Value: *
footprint LCA701S
pins: 1 A(+), 2 K(-), 3 Not used, 4 Load, 5 Not used, 6 Load

## LCD_20x4
designator LCD?, comment LCD 20x4
HelpURL: C:\Varios\PERCRO_DATASHEET\LCD_20x4.pdf
footprint LCD_20x4
pins: 1 VSS, 2 VDD, 3 VEE, 4 RS, 5 R/W, 6 E, 7 DB0, 8 DB1, 9 DB2, 10 DB3, 11 DB4, 12 DB5, 13 DB6, 14 DB7, 15 LEDA, 16 LEDK

## LCD_ADAFRUIT_2.8
designator LCD?
LCD 2.8 in - 5 V; Value: 5V - LCD; Manufacturer: ADAFRUIT; Manufacturer Code: LCD_ADAFRUIT_2.8; HelpURL: C:\Varios\PERCRO_DATASHEET\Adafruit_LCD_2.8.pdf
footprint LCD_ADAFRUIT (LCD ADAFRUIT 2.8 in)
part A pins: 1 NC, 2 NC, 3 NC, 4 NC, 5 NC, 6 NC, 7 NC, 8 LCD_D53, 9 LCD_D9, 10 NC
part B pins: 11 NC, 12 NC, 13 NC, 14 NC, 15 NC, 16 NC, 17 NC, 18 NC
part C pins: 19 MISO, 20 +5V, 21 SCK, 22 MOSI, 23 RESET, 24 GND
part D pins: 25 NC, 26 NC, 27 NC, 28 NC, 29 NC, 30 NC
part E pins: 31 NC, 32 GND, 33 GND, 34 +5V, 35 NC, 36 NC, 37 NC, 38 NC
part A text: J1
part B text: J2
part C text: J3
part D text: J4
part E text: J5

## LCD_ELEGOO_2.8
designator LCD?
LCD 2.8 in - 5 V; Manufacturer: ELEGOO; Manufacturer Code: LCD_Elego_2.8in; Value: 5V - LCD; HelpURL: C:\Varios\PERCRO_DATASHEET\Elegoo 2.8 inch.pdf
footprint LCD_ELEGOO (LCD Elegoo 2.8 in)
part A pins: 1 NC, 2 NC, 3 SD_SCK, 4 SD_DO, 5 SD_DI, 6 SD_SS, 7 LCD_DB1, 8 LCD_DB0
part B pins: 9 LCD_DB7, 10 LCD_DB6, 11 LCD_DB5, 12 LCD_DB4, 13 LCD_DB3, 14 LCD_DB2, 15 NC, 16 NC
part C pins: 17 NC, 18 LCD_RST, 19 LCD_CS, 20 LCD_RS, 21 LCD_WR, 22 LCD_RD
part D pins: 23 NC, 24 GND, 25 GND, 26 +5V, 27 NC/+3V, 28 NC
part A text: J1
part B text: J2
part C text: J3
part D text: J4

## LD3985M33R
designator U?
Regulator 5V to 3.3V; Manufacturer: STMicroelectronics; Manufacturer Code: LD3985M33R; Value: 5V to 3.3V; HelpURL: C:\Varios\PERCRO_DATASHEET\LD3985M33R.pdf
footprint SOT-23-5L
pins: 1 VIN, 2 VIN, 3 INH, 4 BYPASS, 5 VOUT
text: GND

## LED_GREEN
designator D?, comment GREEN
LED_SMD_0805; Manufacturer Code: LG R971; Manufacturer: OSRAM Opto Semiconductors; HelpURL: C:\Varios\PERCRO_DATASHEET\LG R971.pdf
footprint LED-0805
pins: 1 A, 2 K

## LED_OTHER
designator D?
Typical RED GaAs LED; Published: 8-Jun-2000; LatestRevisionDate: 08-Jul-2005; LatestRevisionNote: Mech Layer 1 removed.; PackageReference: LED-1; Publisher: Altium Limited; PackageDescription: LED; 2 Leads
footprint LED_0603
footprint LED_AXIAL
footprint PLCC-2
footprint LED-0805
footprint LED_UV_SMD
pins: 1 A, 2 K

## LED_RED
designator D?, comment RED
LED_SMD_0805; Manufacturer Code: LH R974; Manufacturer: OSRAM Opto Semiconductors; HelpURL: C:\Varios\PERCRO_DATASHEET\LH R974.pdf
footprint LED-0805
pins: 1 A, 2 K

## LED_RGB_COMMON_CATHODE
designator D?, comment LED_RGB
LED RGB Common cathode; Manufacturer: SparkFun; Manufacturer Code: COM-09264; Value: Red: 2.0V; Green/Blue: 3.2V; IF: 20mA; HelpURL: C:\Varios\PERCRO_DATASHEET\Led_COM-09264.pdf
footprint LED_RGB (LED_RGB_COMMON_CATHODE)
pins: 1 RED, 2 CATHODE, 3 GREEN, 4 BLUE

## LM358ADR
designator U?
Single Power supply 3-32V; Manufacturer: Texas Instrument; HelpURL: C:\Varios\PERCRO_DATASHEET\LM358ADR.pdf; Manufacturer Code: LM358ADR; Value: *
footprint SOIC-8
pins: 1 Out1, 2 IN1-, 3 IN1+, 4 GND, 5 IN2+, 6 IN2-, 7 Out2, 8 V+

## LM555CM/NOPB
designator U?
LM555 timer; Manufacturer: Texas Instruments; Value: 4.5V to 16V; Manufacturer Code: LM555CM/NOPB; HelpURL: C:\Varios\PERCRO_DATASHEET\lm555.pdf
footprint SOIC-8
pins: 1 GND, 2 TRIG (in), 3 OUT (out), 4 ~{RESET}, 5 CTRL, 6 THR, 7 DIS, 8 VCC

## LM2575D2T-5R4G
designator U?
Regulator out 5V - input 4.75V to 40V; Manufacturer: ON Semiconductor; Manufacturer Code: LM2575D2T-5R4G; HelpURL: C:\Varios\PERCRO_DATASHEET\LM2575.pdf; Value: 5V
footprint TO170P1435X457-6N
pins: 1 VIN (power), 2 VOUT (out), 3 GND (in), 4 FB (in), 5 ON/OFF

## LM7805
designator U?
Precision 1A Regulator; Note: Tab is connected to pin 3 (GND).; Published: 24-Aug-2001; LatestRevisionDate: 17-Jul-2002; LatestRevisionNote: Re-released for DXP Platform.; DatasheetVersion: Nov-1999; PackageVersion: Jun-1998; PackageReference: TO220ABN; Publisher: Altium Limited; PackageDescription: TO, Thru-Hole, Vertical, Heatsink Mounted; 3 In-Line Leads; Pitch 2.54 mm; Pin sequence 1, 3, 2; ComponentLink1Description: Manufacturer Link; ComponentLink1URL: http://www.st.com/; ComponentLink2Description: Datasheet; ComponentLink2URL: http://www.st.com/stonline/products/literature/ds/2144/l7805ab.pdf
footprint TO220ABN (TO, Thru-Hole, Vertical, Heatsink Mounted; 3 In-Line Leads; Pitch 2.54 mm; Pin sequence 1, 3, 2)
pins: 1 IN (power), 2 OUT (power), 3 GND (power)

## MALE_ENC_2x05
designator P?
Manufacturer: *; Manufacturer Code: *; HelpURL: *
footprint ENC_HDR2X5_2.54 (MALE CONNECTOR ENCODER)
pins: 1, 2, 3, 4, 5, 6, 7, 8, 9, 10

## MAX232_SMD
designator U?
+5V Powered, Multi-Channel RS-232 Driver/Receiver; Manufacturer: Texas Instruments; Manufacturer Code: MAX232IDR; HelpURL: C:\Varios\PERCRO_DATASHEET\MAX232.pdf
footprint SOIC-16
pins: 1 C1+, 2 VDD (power), 3 C1-, 4 C2+, 5 C2-, 6 VEE (power), 7 T2OUT (out), 8 R2IN (in), 9 R2OUT (out), 10 T2IN (in), 11 T1IN (in), 12 R1OUT (out), 13 R1IN (in), 14 T1OUT (out), 15 GND (power), 16 VCC (power)

## MAX232AEJE
designator U?
+5V Powered, Multi-Channel RS-232 Driver/Receiver; Published: 16-Jan-2001; LatestRevisionDate: 29-May-2009; LatestRevisionNote: Component Body Added.; PackageVersion: 1996; PackageReference: JE16; Publisher: Altium Limited; PackageDescription: DIP, 16-Pin, Row Spacing 7.62 mm, Pitch 2.54 mm; ComponentLink1Description: Manufacturer Link; ComponentLink1URL: http://www.maxim-ic.com/; ComponentLink2Description: Datasheet; ComponentLink2URL: http://pdfserv.maxim-ic.com/en/ds/MAX220-MAX249.pdf
footprint JE16 (DIP, 16-Leads, Row Spacing 7.62mm, Pitch 2.54mm, Body 20.37x6.73mm)
3D model JE16 (DIP, 16-Pin, Row Spacing 7.62 mm, Pitch 2.54 mm)
pins: 1 C1+, 2 VDD (power), 3 C1-, 4 C2+, 5 C2-, 6 VEE (power), 7 T2OUT (out), 8 R2IN (in), 9 R2OUT (out), 10 T2IN (in), 11 T1IN (in), 12 R1OUT (out), 13 R1IN (in), 14 T1OUT (out), 15 GND (power), 16 VCC (power)

## MC7805BDTRKG
designator U?
SMD 5v Regulator; Manufacturer: ON Semiconductor; Manufacturer Code: MC7805BDTRKG; Value: 5v; HelpURL: C:\Varios\PERCRO_DATASHEET\MC7805BDTRKG.pdf
footprint DPAK
pins: 1 IN (power), 3 OUT (power), 4 GND (power)

## MCP121T-475E
designator U?, comment MCP121T-475E/LB
Micropower Voltage Supervisors; Manufacturer: Microchip Technology; HelpURL: C:\Varios\PERCRO_DATASHEET\MCP121T-475E.pdf; Manufacturer Code: MCP121T-475E/LB; Value: *
footprint SC70
pins: 1 RST, 2 VDD, 3 VSS

## MINI USBSMD
designator USB?, comment MINI_USBSMD
Mini USB connector; Manufacturer: Wurth Elektronik; Manufacturer Code: 65100516121; HelpURL: C:\Varios\PERCRO_DATASHEET\65100516121.pdf
footprint USB/SM0.8-6H5 (MINI USB)
pins: 1 VBUS, 2 D-, 3 D+, 4 ID, 5 GND

## Module_MT3608
designator U?
Module regulator step-up 5V to 6.25V; Manufacturer: AEROSEMI; Manufacturer Code: Module MT3608; Value: Vin: 2V to 24V, Vout: up to 28V, 2.0 A; HelpURL: C:\Varios\PERCRO_DATASHEET\MT3608.pdf
footprint MT3608 (Regulator step-up 6W)
pins: 1 VIN+, 2 VIN-, 3 VOUT-, 4 VOUT+

## Module_XL6019
designator U?
Module regulator step-up 5V to 12V; Manufacturer: XLSEMI; Manufacturer Code: Module XL6019; Value: Vin: 5V to 32V, Vout: 1.3V to 35V, 1.5 A; HelpURL: C:\Varios\PERCRO_DATASHEET\XL6019.pdf
footprint XL60019 (Regulator Step-up)
pins: 1 VIN+, 2 VIN-, 3 VOUT-, 4 VOUT+

## MOSFET-N
designator Q?
N-Channel MOSFET; Published: 8-Jun-2000; LatestRevisionDate: 17-Jul-2002; LatestRevisionNote: Re-released for DXP Platform.; PackageVersion: 1995/1996; PackageReference: E3; Publisher: Altium Limited; PackageDescription: TO, Flat Index; 3 In-Line, Axial Leads; Body Dia. 4.6mm; Lead Dia. 0.5 mm (max)
footprint E3 (Footprint not found)
simulation model NMOS (MOSFET-N)
pins: 1 D, 2 G, 3 S

## MOSFET-P
designator Q?
P-Channel MOSFET; Published: 8-Jun-2000; LatestRevisionDate: 17-Jul-2002; LatestRevisionNote: Re-released for DXP Platform.; PackageVersion: 1995/1996; PackageReference: E3; Publisher: Altium Limited; PackageDescription: TO, Flat Index; 3 In-Line, Axial Leads; Body Dia. 4.6mm; Lead Dia. 0.5 mm (max)
footprint E3 (Footprint not found)
simulation model PMOS (MOSFET-P)
pins: 1 D, 2 G, 3 S

## Motor
designator B?
Motor, General Kind; Published: 24-Mar-1999; LatestRevisionDate: 17-Jul-2002; LatestRevisionNote: Re-released for DXP Platform.; PackageReference: RB5-10.5; Publisher: Altium Limited; PackageDescription: Capacitor (Radial); 2 Leads
footprint RB5-10.5 (Footprint not found)
pins: 1, 2
text: M

## Motor_Servo
designator B?
Published: 24-Mar-1999; LatestRevisionDate: 17-Jul-2002; LatestRevisionNote: Re-released for DXP Platform.; PackageReference: RAD-0.4; Publisher: Altium Limited; PackageDescription: Radial Cap, Thru-Hole; 2 Leads; 0.4 in Pin Spacing
footprint RAD-0.4 (Footprint not found)
pins: 1 +, 2 -
text: A

## MPU-9150_DROTEK_1
designator U?
Manufacturer: DROTEK; HelpURL: C:\AltiumDoc\Datasheets\MPU-9150/pdf; Manufacturer Code: MPU-9150
footprint PCB_MPU-9150_DROTEK (Slot to MPU_9150_DROTEK)
pins: 1 SCL, 2 SDA, 3 VDD, 4 GND, 5 INT, 6 ESC_CL, 7 ES_DA

## MPU-9150_SPARK
designator U?
IMU 9 DOF; Manufacturer: SPARKFUN; HelpURL: C:\AltiumDoc\Datasheets\MPU-9150.pdf; Manufacturer Code: MPU-9150
footprint PCB_MPU-9150_SPARK (Slot to PCB_MPU-9150 from Sparkfun)
pins: 1 INT, 2 FSYNC, 3 AD0, 4 CLKIN, 5 CLKOUT, 6 ESC, 7 ESD, 8 SDA, 9 SCL, 10 VCC, 11 GND

## MPU-9250_DROTEK
designator IMU?, comment MPU-9250
Manufacturer: DROTEK; HelpURL: C:\Varios\PERCRO_DATASHEET\MPU9250.pdf; Manufacturer Code: MPU-9250
footprint MPU9250 (IMU 9DOF)
pins: 1 CS, 2 SDO, 3 INT, 4 VDD, 5 GND, 6 SCL, 7 SDA

## MQ-135
designator U?
Sensor MQ-135 de CO2; Manufacturer: Olimex Ltd; Manufacturer Code: SNS-MQ135; Value: 5V; HelpURL: C:\Varios\PERCRO_DATASHEET\SNS-MQ135.pdf
footprint MQ-135 (Sensor_CO2)
pins: 1 VCC, 2 GND, 3 DO, 4 AO

## Opto TRIAC
designator U?
Opto-Triac; Published: 24-Mar-1999; LatestRevisionDate: 17-Jul-2002; LatestRevisionNote: Re-released for DXP Platform.; PackageReference: NPSIP4A; Publisher: Altium Limited; PackageDescription: SIP; 4 Leads; Body 10 x 11.5 x 7.5 mm (typ); Pitch 2.54 mm
footprint NPSIP4A (Footprint not found)
pins: 1 A, 2 K, 3 A/K, 4 A/K

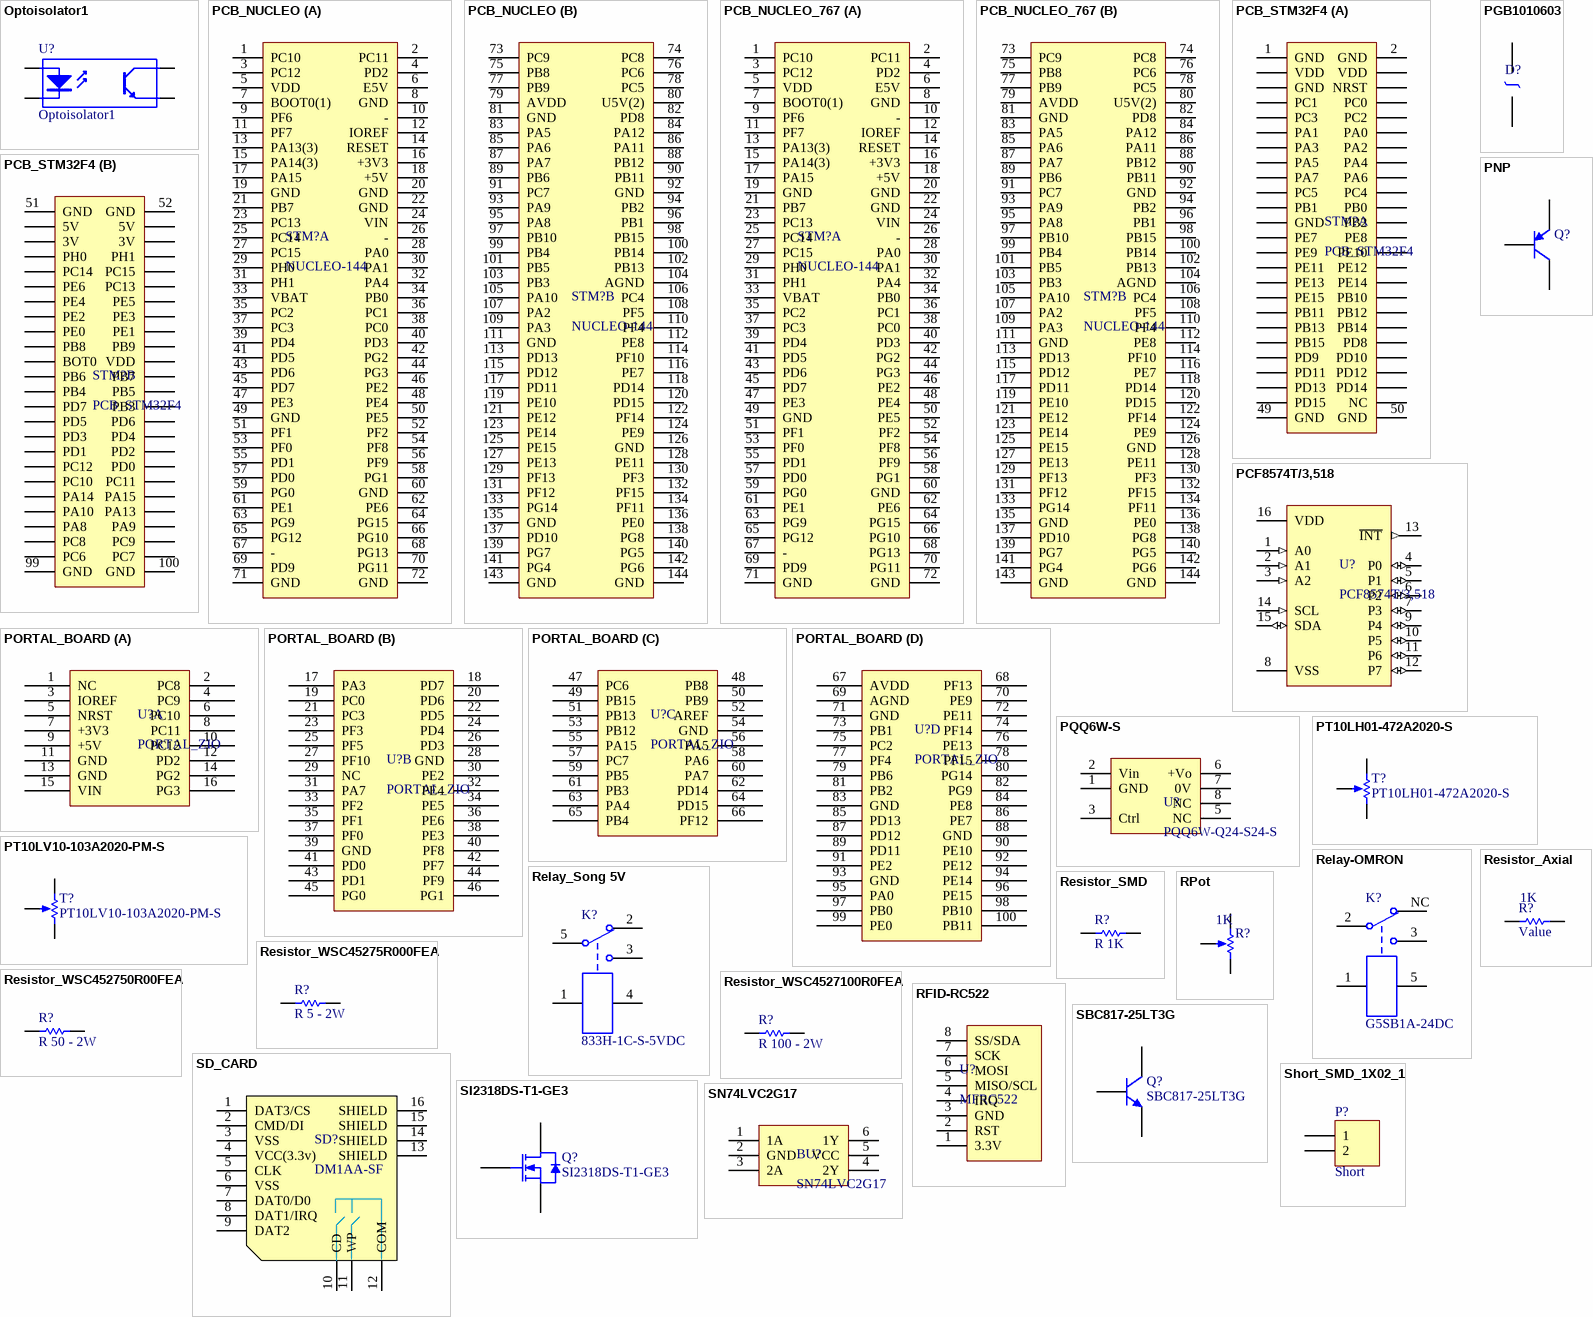
[diagram p3: symbols Optoisolator1 to SN74LVC2G17]

## Optoisolator1
designator U?
4-Pin Phototransistor Optocoupler; Published: 24-Mar-1999; LatestRevisionDate: 04-Mar-2005; LatestRevisionNote: Sch pins 3 & 4 Swapped.; DatasheetVersion: Nov-2003; PackageReference: DIP-4; Publisher: Altium Limited
footprint DIP-4 (Footprint not found)
pins: 1 A "Anode", 2 K "Cathode", 3 E "Emitter", 4 C "Collector"

## PCB_NUCLEO
designator STM?, comment NUCLEO-144
STM32F746ZGT6_144pins; Manufacturer: STM; HelpURL: C:\Varios\PERCRO_DATASHEET\Nucleo.pdf
footprint PCB_NUCLEO
part A pins: 1 PC10, 2 PC11, 3 PC12, 4 PD2, 5 VDD, 6 E5V, 7 BOOT0(1), 8 GND, 9 PF6, 10 -, 11 PF7, 12 IOREF, 13 PA13(3), 14 RESET, 15 PA14(3), 16 +3V3, 17 PA15, 18 +5V, 19 GND, 20 GND, 21 PB7, 22 GND, 23 PC13, 24 VIN, 25 PC14, 26 -, 27 PC15, 28 PA0, 29 PH0, 30 PA1, 31 PH1, 32 PA4, 33 VBAT, 34 PB0, 35 PC2, 36 PC1, 37 PC3, 38 PC0, 39 PD4, 40 PD3, 41 PD5, 42 PG2, 43 PD6, 44 PG3, 45 PD7, 46 PE2, 47 PE3, 48 PE4, 49 GND, 50 PE5, 51 PF1, 52 PF2, 53 PF0, 54 PF8, 55 PD1, 56 PF9, 57 PD0, 58 PG1, 59 PG0, 60 GND, 61 PE1, 62 PE6, 63 PG9, 64 PG15, 65 PG12, 66 PG10, 67 -, 68 PG13, 69 PD9, 70 PG11, 71 GND, 72 GND
part B pins: 73 PC9, 74 PC8, 75 PB8, 76 PC6, 77 PB9, 78 PC5, 79 AVDD, 80 U5V(2), 81 GND, 82 PD8, 83 PA5, 84 PA12, 85 PA6, 86 PA11, 87 PA7, 88 PB12, 89 PB6, 90 PB11, 91 PC7, 92 GND, 93 PA9, 94 PB2, 95 PA8, 96 PB1, 97 PB10, 98 PB15, 99 PB4, 100 PB14, 101 PB5, 102 PB13, 103 PB3, 104 AGND, 105 PA10, 106 PC4, 107 PA2, 108 PF5, 109 PA3, 110 PF4, 111 GND, 112 PE8, 113 PD13, 114 PF10, 115 PD12, 116 PE7, 117 PD11, 118 PD14, 119 PE10, 120 PD15, 121 PE12, 122 PF14, 123 PE14, 124 PE9, 125 PE15, 126 GND, 127 PE13, 128 PE11, 129 PF13, 130 PF3, 131 PF12, 132 PF15, 133 PG14, 134 PF11, 135 GND, 136 PE0, 137 PD10, 138 PG8, 139 PG7, 140 PG5, 141 PG4, 142 PG6, 143 GND, 144 GND

## PCB_NUCLEO_767
designator STM?, comment NUCLEO-144
STM32F767ZIT6U_144pins; Manufacturer: STM; HelpURL: C:\Varios\PERCRO_DATASHEET\STM32F767ZI\NUCLEO-F767ZI.pdf
footprint PCB_NUCLEO
part A pins: 1 PC10, 2 PC11, 3 PC12, 4 PD2, 5 VDD, 6 E5V, 7 BOOT0(1), 8 GND, 9 PF6, 10 -, 11 PF7, 12 IOREF, 13 PA13(3), 14 RESET, 15 PA14(3), 16 +3V3, 17 PA15, 18 +5V, 19 GND, 20 GND, 21 PB7, 22 GND, 23 PC13, 24 VIN, 25 PC14, 26 -, 27 PC15, 28 PA0, 29 PH0, 30 PA1, 31 PH1, 32 PA4, 33 VBAT, 34 PB0, 35 PC2, 36 PC1, 37 PC3, 38 PC0, 39 PD4, 40 PD3, 41 PD5, 42 PG2, 43 PD6, 44 PG3, 45 PD7, 46 PE2, 47 PE3, 48 PE4, 49 GND, 50 PE5, 51 PF1, 52 PF2, 53 PF0, 54 PF8, 55 PD1, 56 PF9, 57 PD0, 58 PG1, 59 PG0, 60 GND, 61 PE1, 62 PE6, 63 PG9, 64 PG15, 65 PG12, 66 PG10, 67 -, 68 PG13, 69 PD9, 70 PG11, 71 GND, 72 GND
part B pins: 73 PC9, 74 PC8, 75 PB8, 76 PC6, 77 PB9, 78 PC5, 79 AVDD, 80 U5V(2), 81 GND, 82 PD8, 83 PA5, 84 PA12, 85 PA6, 86 PA11, 87 PA7, 88 PB12, 89 PB6, 90 PB11, 91 PC7, 92 GND, 93 PA9, 94 PB2, 95 PA8, 96 PB1, 97 PB10, 98 PB15, 99 PB4, 100 PB14, 101 PB5, 102 PB13, 103 PB3, 104 AGND, 105 PA10, 106 PC4, 107 PA2, 108 PF5, 109 PA3, 110 PF4, 111 GND, 112 PE8, 113 PD13, 114 PF10, 115 PD12, 116 PE7, 117 PD11, 118 PD14, 119 PE10, 120 PD15, 121 PE12, 122 PF14, 123 PE14, 124 PE9, 125 PE15, 126 GND, 127 PE13, 128 PE11, 129 PF13, 130 PF3, 131 PF12, 132 PF15, 133 PG14, 134 PF11, 135 GND, 136 PE0, 137 PD10, 138 PG8, 139 PG7, 140 PG5, 141 PG4, 142 PG6, 143 GND, 144 GND

## PCB_STM32F4
designator STM?
Slot to STM32F4; Manufacturer: STM; HelpURL: C:\Varios\PERCRO_DATASHEET\STM32F_DISCOVERY.pdf
footprint STM32F4-Discovery (Footprint of STM32F4 target)
part A pins: 1 GND, 2 GND, 3 VDD, 4 VDD, 5 GND, 6 NRST, 7 PC1, 8 PC0, 9 PC3, 10 PC2, 11 PA1, 12 PA0, 13 PA3, 14 PA2, 15 PA5, 16 PA4, 17 PA7, 18 PA6, 19 PC5, 20 PC4, 21 PB1, 22 PB0, 23 GND, 24 PB2, 25 PE7, 26 PE8, 27 PE9, 28 PE10, 29 PE11, 30 PE12, 31 PE13, 32 PE14, 33 PE15, 34 PB10, 35 PB11, 36 PB12, 37 PB13, 38 PB14, 39 PB15, 40 PD8, 41 PD9, 42 PD10, 43 PD11, 44 PD12, 45 PD13, 46 PD14, 47 PD15, 48 NC, 49 GND, 50 GND
part B pins: 51 GND, 52 GND, 53 5V, 54 5V, 55 3V, 56 3V, 57 PH0, 58 PH1, 59 PC14, 60 PC15, 61 PE6, 62 PC13, 63 PE4, 64 PE5, 65 PE2, 66 PE3, 67 PE0, 68 PE1, 69 PB8, 70 PB9, 71 BOT0, 72 VDD, 73 PB6, 74 PB7, 75 PB4, 76 PB5, 77 PD7, 78 PB3, 79 PD5, 80 PD6, 81 PD3, 82 PD4, 83 PD1, 84 PD2, 85 PC12, 86 PD0, 87 PC10, 88 PC11, 89 PA14, 90 PA15, 91 PA10, 92 PA13, 93 PA8, 94 PA9, 95 PC8, 96 PC9, 97 PC6, 98 PC7, 99 GND, 100 GND

## PCF8574T/3,518
designator U?
I/O Expander 8 I2C 100kHz 20-SSOP; Manufacturer: NXP Semiconductors; Package: SOIC-16 NXP Semiconductors; Manufacturer Code: PCF8574T/3,518; Value: *; HelpURL: C:\Varios\PERCRO_DATASHEET\PCF8574T_3_518.pdf
footprint SOIC127P1032X265-16N
pins: 1 A0 (in), 2 A1 (in), 3 A2 (in), 4 P0 (io), 5 P1 (io), 6 P2 (io), 7 P3 (io), 8 VSS, 9 P4 (io), 10 P5 (io), 11 P6 (io), 12 P7 (io), 13 ~{INT} (out), 14 SCL (in), 15 SDA (io), 16 VDD (power)

## PGB1010603
designator D?, comment Surppressor  (value not drawn)
Surface Mount Polymeric Electrostatic Discharge Suppressors; Manufacturer: *; Manufacturer Code: *; Value: *; HelpURL: C:\Varios\PERCRO_DATASHEET\PGB1010603.pdf
footprint 1608[0603]
pins: 1, 2

## PNP
designator Q?
PNP Bipolar Transistor; Published: 8-Jun-2000; LatestRevisionDate: 29-May-2009; LatestRevisionNote: IPC-7351 Footprint Added.; PackageVersion: Aug-1999; PackageReference: SOT-23B; Publisher: Altium Limited; PackageDescription: 3-Pin SOT-23 Package 0.95 mm Pitch, 2.4 mm Lead Span
footprint SOT-23B_N (Footprint not found)
footprint SOT-23B_L (Footprint not found)
footprint SOT-23B_M (Footprint not found)
simulation model PNP
signal-integrity model PNP
pins: 1 C, 2 B, 3 E

## PORTAL_BOARD
designator U?, comment PORTAL_ZIO
footprint ZIO_CONNECT_M7 (Compatible with Arduino UNO)
part A pins: 1 NC, 2 PC8, 3 IOREF, 4 PC9, 5 NRST, 6 PC10, 7 +3V3, 8 PC11, 9 +5V, 10 PC12, 11 GND, 12 PD2, 13 GND, 14 PG2, 15 VIN, 16 PG3
part B pins: 17 PA3, 18 PD7, 19 PC0, 20 PD6, 21 PC3, 22 PD5, 23 PF3, 24 PD4, 25 PF5, 26 PD3, 27 PF10, 28 GND, 29 NC, 30 PE2, 31 PA7, 32 PE4, 33 PF2, 34 PE5, 35 PF1, 36 PE6, 37 PF0, 38 PE3, 39 GND, 40 PF8, 41 PD0, 42 PF7, 43 PD1, 44 PF9, 45 PG0, 46 PG1
part C pins: 47 PC6, 48 PB8, 49 PB15, 50 PB9, 51 PB13, 52 AREF, 53 PB12, 54 GND, 55 PA15, 56 PA5, 57 PC7, 58 PA6, 59 PB5, 60 PA7, 61 PB3, 62 PD14, 63 PA4, 64 PD15, 65 PB4, 66 PF12
part D pins: 67 AVDD, 68 PF13, 69 AGND, 70 PE9, 71 GND, 72 PE11, 73 PB1, 74 PF14, 75 PC2, 76 PE13, 77 PF4, 78 PF15, 79 PB6, 80 PG14, 81 PB2, 82 PG9, 83 GND, 84 PE8, 85 PD13, 86 PE7, 87 PD12, 88 GND, 89 PD11, 90 PE10, 91 PE2, 92 PE12, 93 GND, 94 PE14, 95 PA0, 96 PE15, 97 PB0, 98 PB10, 99 PE0, 100 PB11

## PQQ6W-S
designator U?, comment PQQ6W-Q24-S24-S
Aislador CC/CC 24 Vdc, 0.25 A, 6 W; Manufacturer: CUI Inc; Value: 24 V, 0.25 A; Manufacturer Code: PQQ6W-Q24-S24-S; HelpURL: C:\Varios\PERCRO_DATASHEET\PQQ6W_S.pdf
footprint PQQ6W-S
pins: 1 GND, 2 Vin, 3 Ctrl, 5 NC, 6 +Vo, 7 0V, 8 NC

## PT10LH01-472A2020-S
designator T?
Trimmer 4.7K Ohm; Manufacturer: Amphenol Piher; HelpURL: C:\Varios\PERCRO_DATASHEET\PT10LH01-472A2020-S.pdf; Manufacturer Code: PT10LH01-472A2020-S; Value: 4.7K
footprint H01 (Trimmer)
pins: 1 TOP, 2 TAP, 3 BOT
1 alternate drawing of the same symbol

## PT10LV10-103A2020-PM-S
designator T?
Trimmer 10K Ohm; Manufacturer: Amphenol Piher; HelpURL: C:\Varios\PERCRO_DATASHEET\PT10LV10-103A2020-PM-S.pdf; Manufacturer Code: PT10LV10-103A2020-PM-S; Value: 10K
footprint V10 (Trimmer PT10 footprint V10)
pins: 1 A, 2 S, 3 E
1 alternate drawing of the same symbol

## Relay-OMRON
designator K?, comment G5SB1A-24DC
Relay OMRON 24V; Manufacturer Code: G5SB1A24DC; Manufacturer: OMRON; HelpURL: C:\Varios\PERCRO_DATASHEET\G5SB1A24DC.pdf
footprint RELAY_G5SB1A24DC (Relay_OMRON)
pins: 1, 2, 3, 5, NC

## Relay_Song 5V
designator K?, comment 833H-1C-S-5VDC
Relay Song Chuan 5V; Manufacturer: Song Chuan; Manufacturer Code: 833H-1C-S-5VDC; HelpURL: C:\Varios\PERCRO_DATASHEET\Relay_833H.pdf
footprint Relay_833H (Rele_833H)
pins: 1, 2 NC, 3 NO, 4, 5

## Resistor_Axial
designator R?, comment Value  value 1K
Resistor_Axial; Published: 8-Jun-2000; LatestRevisionDate: 17-Jul-2002; LatestRevisionNote: Re-released for DXP Platform.; PackageReference: AXIAL-0.3; Publisher: Altium Limited; PackageDescription: Axial Device, Thru-Hole; 2 Leads; 0.3 in Pin Spacing
footprint AXIAL-0.5 (Axial Device, Thru-Hole; 2 Leads; 0.5 in Pin Spacing)
simulation model RESISTOR (Resistor)
signal-integrity model Res
pins: 1, 2

## Resistor_SMD
designator R?, comment R 1K
Resistor_SMD; Value: 1K
footprint 1608[0603]
footprint 2012[0805]
footprint 3216[1206] (Chip-Resistor)
footprint 3225[1210]
footprint 6432[2512] (SMD_resistor)
footprint 0603[0201] (metric[imperial])
pins: 1, 2

## Resistor_WSC45275R000FEA
designator R?, comment R 5 - 2W
Resistor_WSC45275R000FEA; Manufacturer: Vishay / Dale; Value: R 5 - 2W; Manufacturer Code: WSC45275R000FEA; HelpURL: C:\Varios\PERCRO_DATASHEET\WSC45275R000FEA.pdf
footprint WSC4527
pins: 1, 2

## Resistor_WSC452750R00FEA
designator R?, comment R 50 - 2W
Resistor_WSC452750R00FEA; Manufacturer: Vishay / Dale; Value: R 50 - 2W; Manufacturer Code: WSC452750R00FEA; HelpURL: C:\Varios\PERCRO_DATASHEET\WSC452750R00FEA.pdf
footprint WSC4527
pins: 1, 2

## Resistor_WSC4527100R0FEA
designator R?, comment R 100 - 2W
Resistor_WSC4527100R0FEA; Manufacturer: Vishay / Dale; Value: R 100 - 2W; Manufacturer Code: WSC4527100R0FEA; HelpURL: C:\Varios\PERCRO_DATASHEET\WSC45275R000FEA.pdf
footprint WSC4527
pins: 1, 2

## RFID-RC522
designator U?, comment MFRC522
RFID MFRC522 WRITER/READER; Manufacturer: NXP Semiconductors; Value: 3.3V; Manufacturer Code: MFRC522; HelpURL: C:\Varios\PERCRO_DATASHEET\MFRC522.pdf
footprint RFID-RC522 (RFID reader/writer)
pins: 1 3.3V, 2 RST, 3 GND, 4 IRQ, 5 MISO/SCL, 6 MOSI, 7 SCK, 8 SS/SDA

## RPot
designator R?  value 1K
Potentiometer; Sim Note: Enter the Resistance value and the set point into parameter fields.; Set Position: 0.5; Published: 8-Jun-2000; LatestRevisionDate: 17-Jul-2002; LatestRevisionNote: Re-released for DXP Platform.; PackageReference: VR5; Publisher: Altium Limited; PackageDescription: Variable Resistor, Thru-Hole; 3 Leads
footprint VR5 (Footprint not found)
simulation model POT (Potentiometer)
pins: 1 TOP, 2 BOT, 3 TAP
1 alternate drawing of the same symbol

## SBC817-25LT3G
designator Q?
NPN Bipolar Transistor_SMD; Manufacturer: ON_SEMICONDUCTOR; Manufacturer Code: SBC817-25LT3G; HelpURL: C:\Varios\PERCRO_DATASHEET\SBC817-25LT3G.pdf
footprint SOT-23
pins: 1 B, 2 E, 3 C